# Altium integrated library TI_Logic_Gate.IntLib: 2017 symbols (part 11 of 56)
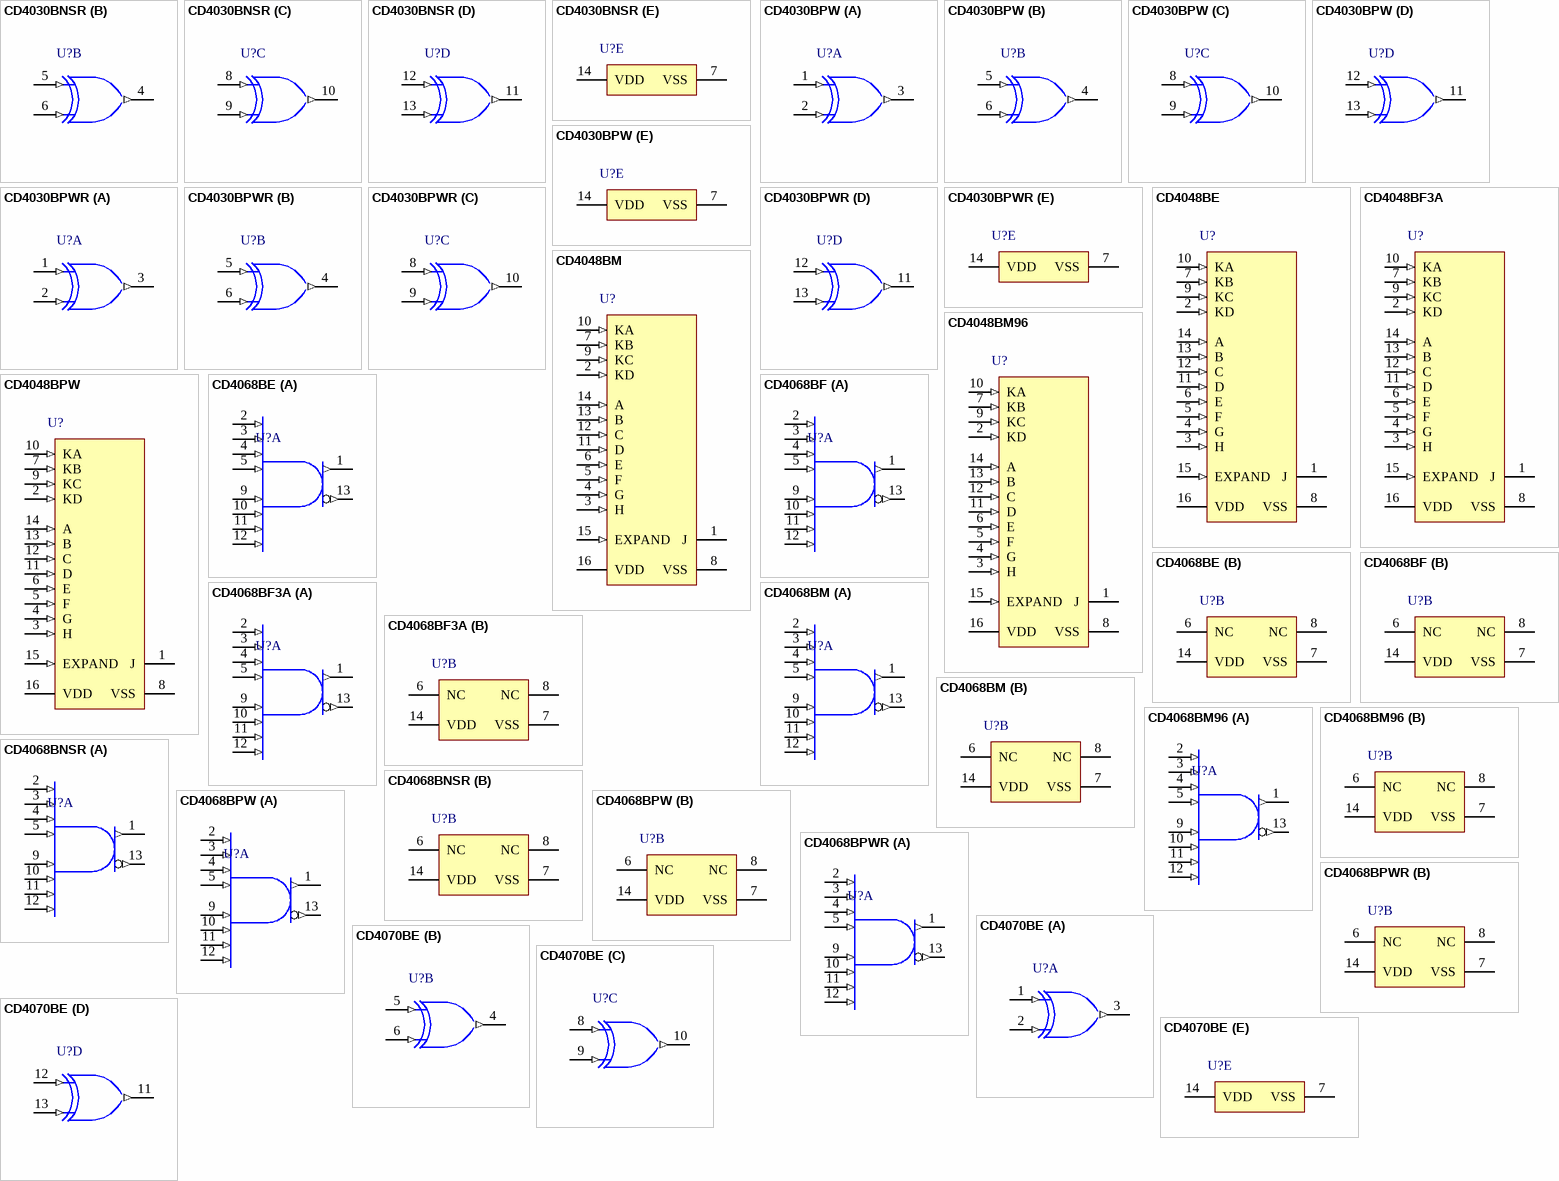
[diagram p235: symbols CD4030BNSR to CD4070BE]

## CD4068BF3A
designator U?
CMOS 8-Input NAND/AND Gate, J0014A, TUBE; Generic Part Number: CD4068B-MIL; Manufacturer: Texas Instruments; PartNumber: CD4068BF3A; VCC(Max)(V): 18; VCC(Min)(V): 3; ICC @ Nom Voltage(Max)(mA): 0.015; F @ Nom Voltage(Max)(Mhz): 8; Rating: Military; Technology Family: CD4000; Voltage(Nom)(V): 10; Schmitt Trigger: No; Output Drive (IOL/IOH)(Max)(mA): 1.5/-1.5; DatasheetVersion: SCHS053C; PackageReference: J0014A; Output Type: CMOS; Input Type: CMOS; Operating Temperature Range(C): -55 to 125; ComponentLink1Description: Manufacturer URL; ComponentLink1URL: http://www.ti.com/; ComponentLink2Description: Datasheet; ComponentLink2URL: http://www.ti.com/lit/ds/symlink/cd4068b-mil.pdf; ComponentLink3Description: Package Specification; ComponentLink3URL: http://www.ti.com/lit/ml/mcer002d/mcer002d.pdf
footprint J0014A (DIP, 14-Leads, Body 19.95x7.2mm, Pitch 2.54mm)
part A pins: 1 K (out), 2 A (in), 3 B (in), 4 C (in), 5 D (in), 9 E (in), 10 F (in), 11 G (in), 12 H (in), 13 J (out)
part B pins: 6 NC, 7 VSS (power), 8 NC, 14 VDD (power)

## CD4068BM
designator U?
CMOS 8-Input NAND/AND Gate, D0014A, TUBE; Generic Part Number: CD4068B; Manufacturer: Texas Instruments; PartNumber: CD4068BM; VCC(Max)(V): 18; VCC(Min)(V): 3; ICC @ Nom Voltage(Max)(mA): 0.015; Bits(#): 1; F @ Nom Voltage(Max)(Mhz): 8; Rating: Catalog; Technology Family: CD4000; Voltage(Nom)(V): 10; Schmitt Trigger: No; Output Drive (IOL/IOH)(Max)(mA): 1.5/-1.5; DatasheetVersion: SCHS053C; PackageReference: D0014A; Supplier 1: Mouser; Supplier Part Number 1: 595-CD4068BM; Supplier 2: Digi-Key; Supplier Part Number 2: 296-38906-5-ND; Output Type: CMOS; Input Type: CMOS; Operating Temperature Range(C): -55 to 125; Code_JEDEC: MS-012; ComponentLink1Description: Manufacturer URL; ComponentLink1URL: http://www.ti.com/; ComponentLink2Description: Datasheet; ComponentLink2URL: http://www.ti.com/lit/ds/symlink/cd4068b.pdf; ComponentLink3Description: Package Specification; ComponentLink3URL: http://www.ti.com/lit/ml/mpds177g/mpds177g.pdf
footprint D0014A_N (SOIC, 14-Leads, Body 8.75x4mm, Pitch 1.27mm, IPC Medium Density)
footprint D0014A_M (SOIC, 14-Leads, Body 8.75x4mm, Pitch 1.27mm, IPC Low Density)
footprint D0014A_L (SOIC, 14-Leads, Body 8.75x4mm, Pitch 1.27mm, IPC High Density)
part A pins: 1 K (out), 2 A (in), 3 B (in), 4 C (in), 5 D (in), 9 E (in), 10 F (in), 11 G (in), 12 H (in), 13 J (out)
part B pins: 6 NC, 7 VSS (power), 8 NC, 14 VDD (power)

## CD4068BM96
designator U?
CMOS 8-Input NAND/AND Gate, D0014A, LARGE T&R; Generic Part Number: CD4068B; Manufacturer: Texas Instruments; PartNumber: CD4068BM96; VCC(Max)(V): 18; VCC(Min)(V): 3; ICC @ Nom Voltage(Max)(mA): 0.015; Bits(#): 1; F @ Nom Voltage(Max)(Mhz): 8; Rating: Catalog; Technology Family: CD4000; Voltage(Nom)(V): 10; Schmitt Trigger: No; Output Drive (IOL/IOH)(Max)(mA): 1.5/-1.5; DatasheetVersion: SCHS053C; PackageReference: D0014A; Supplier 1: Mouser; Supplier Part Number 1: 595-CD4068BM96; Supplier 2: Digi-Key; Supplier Part Number 2: 296-15355-2-ND; Supplier 3: Digi-Key; Supplier Part Number 3: 296-15355-1-ND; Supplier 4: Digi-Key; Supplier Part Number 4: 296-15355-6-ND; Output Type: CMOS; Input Type: CMOS; Operating Temperature Range(C): -55 to 125; Code_JEDEC: MS-012; ComponentLink1Description: Manufacturer URL; ComponentLink1URL: http://www.ti.com/; ComponentLink2Description: Datasheet; ComponentLink2URL: http://www.ti.com/lit/ds/symlink/cd4068b.pdf; ComponentLink3Description: Package Specification; ComponentLink3URL: http://www.ti.com/lit/ml/mpds177g/mpds177g.pdf
footprint D0014A_N (SOIC, 14-Leads, Body 8.75x4mm, Pitch 1.27mm, IPC Medium Density)
footprint D0014A_M (SOIC, 14-Leads, Body 8.75x4mm, Pitch 1.27mm, IPC Low Density)
footprint D0014A_L (SOIC, 14-Leads, Body 8.75x4mm, Pitch 1.27mm, IPC High Density)
part A pins: 1 K (out), 2 A (in), 3 B (in), 4 C (in), 5 D (in), 9 E (in), 10 F (in), 11 G (in), 12 H (in), 13 J (out)
part B pins: 6 NC, 7 VSS (power), 8 NC, 14 VDD (power)

## CD4068BNSR
designator U?
CMOS 8-Input NAND/AND Gate, NS0014A, LARGE T&R; Generic Part Number: CD4068B; Manufacturer: Texas Instruments; PartNumber: CD4068BNSR; VCC(Max)(V): 18; VCC(Min)(V): 3; ICC @ Nom Voltage(Max)(mA): 0.015; Bits(#): 1; F @ Nom Voltage(Max)(Mhz): 8; Rating: Catalog; Technology Family: CD4000; Voltage(Nom)(V): 10; Schmitt Trigger: No; Output Drive (IOL/IOH)(Max)(mA): 1.5/-1.5; DatasheetVersion: SCHS053C; PackageReference: NS0014A; Supplier 1: Mouser; Supplier Part Number 1: 595-CD4068BNSR; Supplier 2: Digi-Key; Supplier Part Number 2: 296-14125-2-ND; Supplier 3: Digi-Key; Supplier Part Number 3: 296-14125-1-ND; Supplier 4: Digi-Key; Supplier Part Number 4: 296-14125-6-ND; Output Type: CMOS; Input Type: CMOS; Operating Temperature Range(C): -55 to 125; ComponentLink1Description: Manufacturer URL; ComponentLink1URL: http://www.ti.com/; ComponentLink2Description: Datasheet; ComponentLink2URL: http://www.ti.com/lit/ds/symlink/cd4068b.pdf; ComponentLink3Description: Package Specification; ComponentLink3URL: http://www.ti.com/lit/ml/msop002a/msop002a.pdf
footprint NS0014A_N (SOIC,14-Leads,Body 10.5x5.6mm,Pitch 1.27mm,IPC Medium Density)
footprint NS0014A_M (SOIC,14-Leads,Body 10.5x5.6mm,Pitch 1.27mm,IPC Low Density)
footprint NS0014A_L (SOIC,14-Leads,Body 10.5x5.6mm,Pitch 0.4mm,IPC High Density)
part A pins: 1 K (out), 2 A (in), 3 B (in), 4 C (in), 5 D (in), 9 E (in), 10 F (in), 11 G (in), 12 H (in), 13 J (out)
part B pins: 6 NC, 7 VSS (power), 8 NC, 14 VDD (power)

## CD4068BPW
designator U?
CMOS 8-Input NAND/AND Gate, PW0014A, TUBE; Generic Part Number: CD4068B; Manufacturer: Texas Instruments; PartNumber: CD4068BPW; VCC(Max)(V): 18; VCC(Min)(V): 3; ICC @ Nom Voltage(Max)(mA): 0.015; Bits(#): 1; F @ Nom Voltage(Max)(Mhz): 8; Rating: Catalog; Technology Family: CD4000; Voltage(Nom)(V): 10; Schmitt Trigger: No; Output Drive (IOL/IOH)(Max)(mA): 1.5/-1.5; DatasheetVersion: SCHS053C; PackageReference: PW0014A; Supplier 1: Mouser; Supplier Part Number 1: 595-CD4068BPW; Supplier 2: Digi-Key; Supplier Part Number 2: CD4068BPW-ND; Output Type: CMOS; Input Type: CMOS; Operating Temperature Range(C): -55 to 125; Code_JEDEC: MO-153; ComponentLink1Description: Manufacturer URL; ComponentLink1URL: http://www.ti.com/; ComponentLink2Description: Datasheet; ComponentLink2URL: http://www.ti.com/lit/ds/symlink/cd4068b.pdf; ComponentLink3Description: Package Specification; ComponentLink3URL: http://www.ti.com/lit/ml/mpds360/mpds360.pdf
footprint PW0014A_N (SOP, 14-Leads, Body 5.1x4.5mm, Pitch 0.65mm, IPC Medium Density)
footprint PW0014A_M (SOP, 14-Leads, Body 5.1x4.5mm, Pitch 0.65mm, IPC Low Density)
footprint PW0014A_L (SOP, 14-Leads, Body 5.1x4.5mm, Pitch 0.65mm, IPC High Density)
part A pins: 1 K (out), 2 A (in), 3 B (in), 4 C (in), 5 D (in), 9 E (in), 10 F (in), 11 G (in), 12 H (in), 13 J (out)
part B pins: 6 NC, 7 VSS (power), 8 NC, 14 VDD (power)

## CD4068BPWR
designator U?
CMOS 8-Input NAND/AND Gate, PW0014A, LARGE T&R; Generic Part Number: CD4068B; Manufacturer: Texas Instruments; PartNumber: CD4068BPWR; VCC(Max)(V): 18; VCC(Min)(V): 3; ICC @ Nom Voltage(Max)(mA): 0.015; Bits(#): 1; F @ Nom Voltage(Max)(Mhz): 8; Rating: Catalog; Technology Family: CD4000; Voltage(Nom)(V): 10; Schmitt Trigger: No; Output Drive (IOL/IOH)(Max)(mA): 1.5/-1.5; DatasheetVersion: SCHS053C; PackageReference: PW0014A; Supplier 1: Mouser; Supplier Part Number 1: 595-CD4068BPWR; Supplier 2: Digi-Key; Supplier Part Number 2: 296-31516-2-ND; Supplier 3: Digi-Key; Supplier Part Number 3: 296-31516-1-ND; Supplier 4: Digi-Key; Supplier Part Number 4: 296-31516-6-ND; Output Type: CMOS; Input Type: CMOS; Operating Temperature Range(C): -55 to 125; Code_JEDEC: MO-153; ComponentLink1Description: Manufacturer URL; ComponentLink1URL: http://www.ti.com/; ComponentLink2Description: Datasheet; ComponentLink2URL: http://www.ti.com/lit/ds/symlink/cd4068b.pdf; ComponentLink3Description: Package Specification; ComponentLink3URL: http://www.ti.com/lit/ml/mpds360/mpds360.pdf
footprint PW0014A_N (SOP, 14-Leads, Body 5.1x4.5mm, Pitch 0.65mm, IPC Medium Density)
footprint PW0014A_M (SOP, 14-Leads, Body 5.1x4.5mm, Pitch 0.65mm, IPC Low Density)
footprint PW0014A_L (SOP, 14-Leads, Body 5.1x4.5mm, Pitch 0.65mm, IPC High Density)
part A pins: 1 K (out), 2 A (in), 3 B (in), 4 C (in), 5 D (in), 9 E (in), 10 F (in), 11 G (in), 12 H (in), 13 J (out)
part B pins: 6 NC, 7 VSS (power), 8 NC, 14 VDD (power)

## CD4070BE
designator U?
CMOS Quad Exclusive-OR Gate, N0014A, TUBE; Generic Part Number: CD4070B; Manufacturer: Texas Instruments; PartNumber: CD4070BE; VCC(Max)(V): 18; VCC(Min)(V): 3; ICC @ Nom Voltage(Max)(mA): 0.015; Bits(#): 4; F @ Nom Voltage(Max)(Mhz): 8; Rating: Military; Technology Family: CD4000; Voltage(Nom)(V): 10; Schmitt Trigger: No; Output Drive (IOL/IOH)(Max)(mA): 1.5/-1.5; tpd @ Nom Voltage(Max)(ns): 130; DatasheetVersion: SCHS055E; PackageReference: N0014A; Supplier 1: Mouser; Supplier Part Number 1: 595-CD4070BE; Supplier 2: Digi-Key; Supplier Part Number 2: 296-14128-5-ND; Output Type: CMOS; Input Type: CMOS; Operating Temperature Range(C): -55 to 125; ComponentLink1Description: Manufacturer URL; ComponentLink1URL: http://www.ti.com/; ComponentLink2Description: Datasheet; ComponentLink2URL: http://www.ti.com/lit/ds/symlink/cd4070b.pdf
footprint N0014A (DIP, 14-Leads, Body 19.7x6.6mm, Pitch 2.54mm)
part A pins: 1 A (in), 2 B (in), 3 J (out)
part B pins: 4 K (out), 5 C (in), 6 D (in)
part C pins: 8 E (in), 9 F (in), 10 L (out)
part D pins: 11 M (out), 12 G (in), 13 H (in)
part E pins: 7 VSS (power), 14 VDD (power)

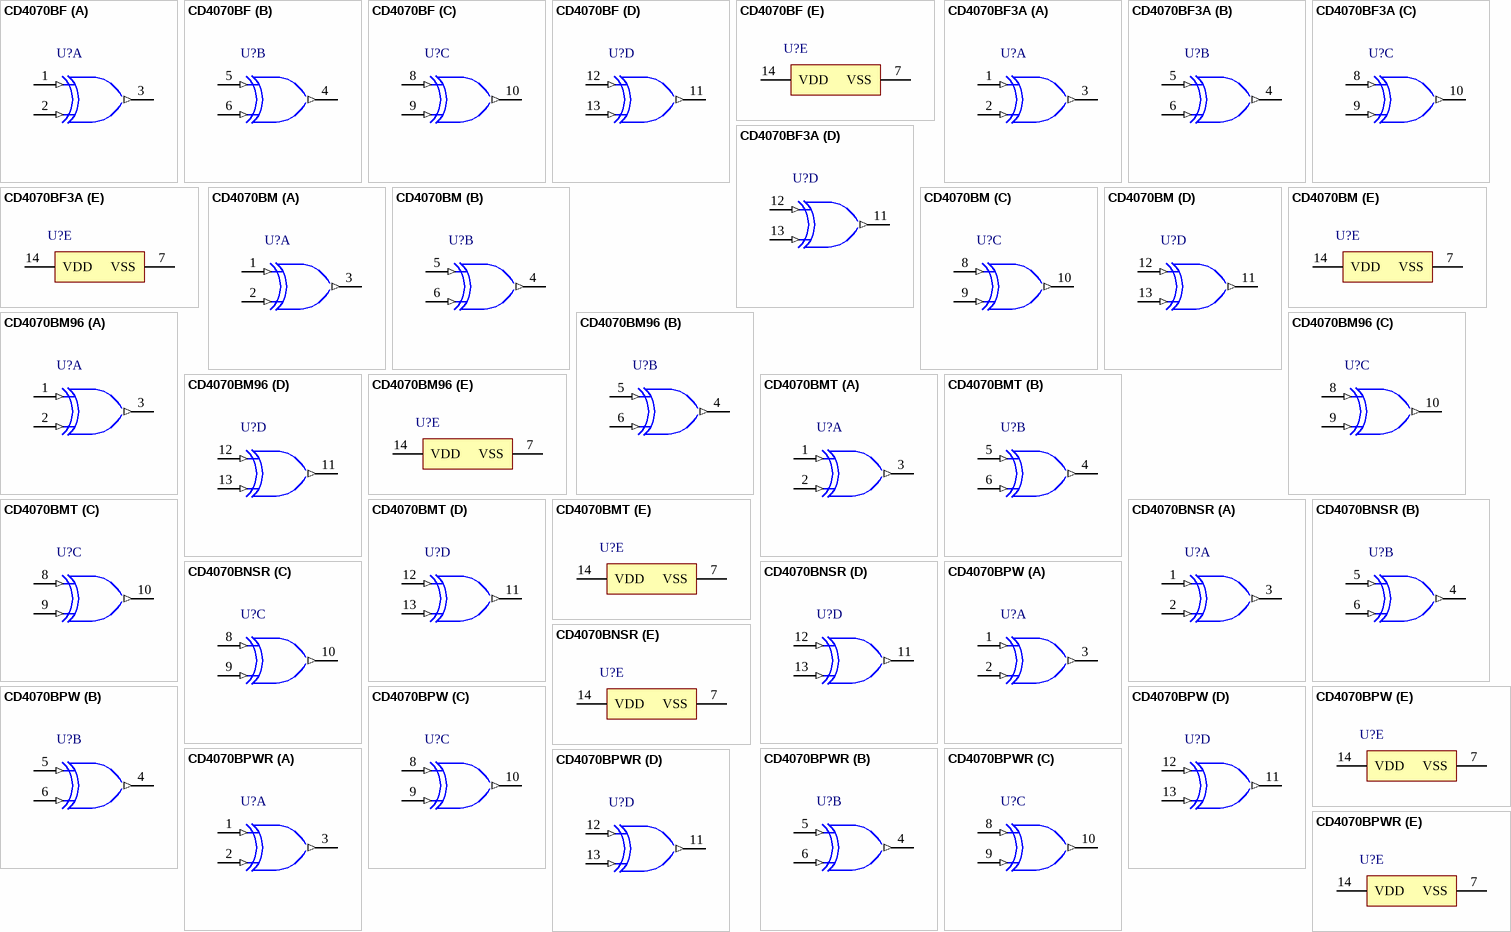
[diagram p40: symbols CD4070BF to CD4070BPWR]

## CD4070BF
designator U?
CMOS Quad Exclusive-OR Gate, J0014A, TUBE; Generic Part Number: CD4070B-MIL; Manufacturer: Texas Instruments; PartNumber: CD4070BF; VCC(Max)(V): 18; VCC(Min)(V): 3; ICC @ Nom Voltage(Max)(mA): 0.015; Bits(#): 4; F @ Nom Voltage(Max)(Mhz): 8; Rating: Military; Technology Family: CD4000; Voltage(Nom)(V): 10; Schmitt Trigger: No; Output Drive (IOL/IOH)(Max)(mA): 1.5/-1.5; tpd @ Nom Voltage(Max)(ns): 130; DatasheetVersion: SCHS055E; PackageReference: J0014A; Output Type: CMOS; Input Type: CMOS; Operating Temperature Range(C): -55 to 125; ComponentLink1Description: Manufacturer URL; ComponentLink1URL: http://www.ti.com/; ComponentLink2Description: Datasheet; ComponentLink2URL: http://www.ti.com/lit/ds/symlink/cd4070b-mil.pdf
footprint J0014A (DIP, 14-Leads, Body 19.95x7.2mm, Pitch 2.54mm)
part A pins: 1 A (in), 2 B (in), 3 J (out)
part B pins: 4 K (out), 5 C (in), 6 D (in)
part C pins: 8 E (in), 9 F (in), 10 L (out)
part D pins: 11 M (out), 12 G (in), 13 H (in)
part E pins: 7 VSS (power), 14 VDD (power)

## CD4070BF3A
designator U?
CMOS Quad Exclusive-OR Gate, J0014A, TUBE; Generic Part Number: CD4070B-MIL; Manufacturer: Texas Instruments; PartNumber: CD4070BF3A; VCC(Max)(V): 18; VCC(Min)(V): 3; ICC @ Nom Voltage(Max)(mA): 0.015; Bits(#): 4; F @ Nom Voltage(Max)(Mhz): 8; Rating: Military; Technology Family: CD4000; Voltage(Nom)(V): 10; Schmitt Trigger: No; Output Drive (IOL/IOH)(Max)(mA): 1.5/-1.5; tpd @ Nom Voltage(Max)(ns): 130; DatasheetVersion: SCHS055E; PackageReference: J0014A; Output Type: CMOS; Input Type: CMOS; Operating Temperature Range(C): -55 to 125; ComponentLink1Description: Manufacturer URL; ComponentLink1URL: http://www.ti.com/; ComponentLink2Description: Datasheet; ComponentLink2URL: http://www.ti.com/lit/ds/symlink/cd4070b-mil.pdf
footprint J0014A (DIP, 14-Leads, Body 19.95x7.2mm, Pitch 2.54mm)
part A pins: 1 A (in), 2 B (in), 3 J (out)
part B pins: 4 K (out), 5 C (in), 6 D (in)
part C pins: 8 E (in), 9 F (in), 10 L (out)
part D pins: 11 M (out), 12 G (in), 13 H (in)
part E pins: 7 VSS (power), 14 VDD (power)

## CD4070BM
designator U?
CMOS Quad Exclusive-OR Gate, D0014A, TUBE; Generic Part Number: CD4070B; Manufacturer: Texas Instruments; PartNumber: CD4070BM; VCC(Max)(V): 18; VCC(Min)(V): 3; ICC @ Nom Voltage(Max)(mA): 0.015; Bits(#): 4; F @ Nom Voltage(Max)(Mhz): 8; Rating: Military; Technology Family: CD4000; Voltage(Nom)(V): 10; Schmitt Trigger: No; Output Drive (IOL/IOH)(Max)(mA): 1.5/-1.5; tpd @ Nom Voltage(Max)(ns): 130; DatasheetVersion: SCHS055E; PackageReference: D0014A; Supplier 1: Mouser; Supplier Part Number 1: 595-CD4070BM; Supplier 2: Digi-Key; Supplier Part Number 2: 296-14276-5-ND; Output Type: CMOS; Input Type: CMOS; Operating Temperature Range(C): -55 to 125; ComponentLink1Description: Manufacturer URL; ComponentLink1URL: http://www.ti.com/; ComponentLink2Description: Datasheet; ComponentLink2URL: http://www.ti.com/lit/ds/symlink/cd4070b.pdf
footprint D0014A_N (SOIC, 14-Leads, Body 8.75x4mm, Pitch 1.27mm, IPC Medium Density)
footprint D0014A_M (SOIC, 14-Leads, Body 8.75x4mm, Pitch 1.27mm, IPC Low Density)
footprint D0014A_L (SOIC, 14-Leads, Body 8.75x4mm, Pitch 1.27mm, IPC High Density)
part A pins: 1 A (in), 2 B (in), 3 J (out)
part B pins: 4 K (out), 5 C (in), 6 D (in)
part C pins: 8 E (in), 9 F (in), 10 L (out)
part D pins: 11 M (out), 12 G (in), 13 H (in)
part E pins: 7 VSS (power), 14 VDD (power)

## CD4070BM96
designator U?
CMOS Quad Exclusive-OR Gate, D0014A, LARGE T&R; Generic Part Number: CD4070B; Manufacturer: Texas Instruments; PartNumber: CD4070BM96; VCC(Max)(V): 18; VCC(Min)(V): 3; ICC @ Nom Voltage(Max)(mA): 0.015; Bits(#): 4; F @ Nom Voltage(Max)(Mhz): 8; Rating: Military; Technology Family: CD4000; Voltage(Nom)(V): 10; Schmitt Trigger: No; Output Drive (IOL/IOH)(Max)(mA): 1.5/-1.5; tpd @ Nom Voltage(Max)(ns): 130; DatasheetVersion: SCHS055E; PackageReference: D0014A; Supplier 1: Mouser; Supplier Part Number 1: 595-CD4070BM96; Supplier 2: Digi-Key; Supplier Part Number 2: 296-31517-2-ND; Supplier 3: Digi-Key; Supplier Part Number 3: 296-31517-1-ND; Supplier 4: Digi-Key; Supplier Part Number 4: 296-31517-6-ND; Output Type: CMOS; Input Type: CMOS; Operating Temperature Range(C): -55 to 125; ComponentLink1Description: Manufacturer URL; ComponentLink1URL: http://www.ti.com/; ComponentLink2Description: Datasheet; ComponentLink2URL: http://www.ti.com/lit/ds/symlink/cd4070b.pdf
footprint D0014A_N (SOIC, 14-Leads, Body 8.75x4mm, Pitch 1.27mm, IPC Medium Density)
footprint D0014A_M (SOIC, 14-Leads, Body 8.75x4mm, Pitch 1.27mm, IPC Low Density)
footprint D0014A_L (SOIC, 14-Leads, Body 8.75x4mm, Pitch 1.27mm, IPC High Density)
part A pins: 1 A (in), 2 B (in), 3 J (out)
part B pins: 4 K (out), 5 C (in), 6 D (in)
part C pins: 8 E (in), 9 F (in), 10 L (out)
part D pins: 11 M (out), 12 G (in), 13 H (in)
part E pins: 7 VSS (power), 14 VDD (power)

## CD4070BMT
designator U?
CMOS Quad Exclusive-OR Gate, D0014A, SMALL T&R; Generic Part Number: CD4070B; Manufacturer: Texas Instruments; PartNumber: CD4070BMT; VCC(Max)(V): 18; VCC(Min)(V): 3; ICC @ Nom Voltage(Max)(mA): 0.015; Bits(#): 4; F @ Nom Voltage(Max)(Mhz): 8; Rating: Military; Technology Family: CD4000; Voltage(Nom)(V): 10; Schmitt Trigger: No; Output Drive (IOL/IOH)(Max)(mA): 1.5/-1.5; tpd @ Nom Voltage(Max)(ns): 130; DatasheetVersion: SCHS055E; PackageReference: D0014A; Supplier 1: Mouser; Supplier Part Number 1: 595-CD4070BMT; Supplier 2: Digi-Key; Supplier Part Number 2: CD4070BMT-ND; Output Type: CMOS; Input Type: CMOS; Operating Temperature Range(C): -55 to 125; ComponentLink1Description: Manufacturer URL; ComponentLink1URL: http://www.ti.com/; ComponentLink2Description: Datasheet; ComponentLink2URL: http://www.ti.com/lit/ds/symlink/cd4070b.pdf
footprint D0014A_N (SOIC, 14-Leads, Body 8.75x4mm, Pitch 1.27mm, IPC Medium Density)
footprint D0014A_M (SOIC, 14-Leads, Body 8.75x4mm, Pitch 1.27mm, IPC Low Density)
footprint D0014A_L (SOIC, 14-Leads, Body 8.75x4mm, Pitch 1.27mm, IPC High Density)
part A pins: 1 A (in), 2 B (in), 3 J (out)
part B pins: 4 K (out), 5 C (in), 6 D (in)
part C pins: 8 E (in), 9 F (in), 10 L (out)
part D pins: 11 M (out), 12 G (in), 13 H (in)
part E pins: 7 VSS (power), 14 VDD (power)

## CD4070BNSR
designator U?
CMOS Quad Exclusive-OR Gate, NS0014A, LARGE T&R; Generic Part Number: CD4070B; Manufacturer: Texas Instruments; PartNumber: CD4070BNSR; VCC(Max)(V): 18; VCC(Min)(V): 3; ICC @ Nom Voltage(Max)(mA): 0.015; Bits(#): 4; F @ Nom Voltage(Max)(Mhz): 8; Rating: Military; Technology Family: CD4000; Voltage(Nom)(V): 10; Schmitt Trigger: No; Output Drive (IOL/IOH)(Max)(mA): 1.5/-1.5; tpd @ Nom Voltage(Max)(ns): 130; DatasheetVersion: SCHS055E; PackageReference: NS0014A; Supplier 1: Mouser; Supplier Part Number 1: 595-CD4070BNSR; Supplier 2: Digi-Key; Supplier Part Number 2: 296-14129-2-ND; Supplier 3: Digi-Key; Supplier Part Number 3: 296-14129-1-ND; Supplier 4: Digi-Key; Supplier Part Number 4: 296-14129-6-ND; Output Type: CMOS; Input Type: CMOS; Operating Temperature Range(C): -55 to 125; ComponentLink1Description: Manufacturer URL; ComponentLink1URL: http://www.ti.com/; ComponentLink2Description: Datasheet; ComponentLink2URL: http://www.ti.com/lit/ds/symlink/cd4070b.pdf
footprint NS0014A_N (SOIC,14-Leads,Body 10.5x5.6mm,Pitch 1.27mm,IPC Medium Density)
footprint NS0014A_M (SOIC,14-Leads,Body 10.5x5.6mm,Pitch 1.27mm,IPC Low Density)
footprint NS0014A_L (SOIC,14-Leads,Body 10.5x5.6mm,Pitch 0.4mm,IPC High Density)
part A pins: 1 A (in), 2 B (in), 3 J (out)
part B pins: 4 K (out), 5 C (in), 6 D (in)
part C pins: 8 E (in), 9 F (in), 10 L (out)
part D pins: 11 M (out), 12 G (in), 13 H (in)
part E pins: 7 VSS (power), 14 VDD (power)

## CD4070BPW
designator U?
CMOS Quad Exclusive-OR Gate, PW0014A, TUBE; Generic Part Number: CD4070B; Manufacturer: Texas Instruments; PartNumber: CD4070BPW; VCC(Max)(V): 18; VCC(Min)(V): 3; ICC @ Nom Voltage(Max)(mA): 0.015; Bits(#): 4; F @ Nom Voltage(Max)(Mhz): 8; Rating: Military; Technology Family: CD4000; Voltage(Nom)(V): 10; Schmitt Trigger: No; Output Drive (IOL/IOH)(Max)(mA): 1.5/-1.5; tpd @ Nom Voltage(Max)(ns): 130; DatasheetVersion: SCHS055E; PackageReference: PW0014A; Supplier 1: Mouser; Supplier Part Number 1: 595-CD4070BPW; Supplier 2: Digi-Key; Supplier Part Number 2: CD4070BPW-ND; Output Type: CMOS; Input Type: CMOS; Operating Temperature Range(C): -55 to 125; ComponentLink1Description: Manufacturer URL; ComponentLink1URL: http://www.ti.com/; ComponentLink2Description: Datasheet; ComponentLink2URL: http://www.ti.com/lit/ds/symlink/cd4070b.pdf
footprint PW0014A_N (SOP, 14-Leads, Body 5.1x4.5mm, Pitch 0.65mm, IPC Medium Density)
footprint PW0014A_M (SOP, 14-Leads, Body 5.1x4.5mm, Pitch 0.65mm, IPC Low Density)
footprint PW0014A_L (SOP, 14-Leads, Body 5.1x4.5mm, Pitch 0.65mm, IPC High Density)
part A pins: 1 A (in), 2 B (in), 3 J (out)
part B pins: 4 K (out), 5 C (in), 6 D (in)
part C pins: 8 E (in), 9 F (in), 10 L (out)
part D pins: 11 M (out), 12 G (in), 13 H (in)
part E pins: 7 VSS (power), 14 VDD (power)

## CD4070BPWR
designator U?
CMOS Quad Exclusive-OR Gate, PW0014A, LARGE T&R; Generic Part Number: CD4070B; Manufacturer: Texas Instruments; PartNumber: CD4070BPWR; VCC(Max)(V): 18; VCC(Min)(V): 3; ICC @ Nom Voltage(Max)(mA): 0.015; Bits(#): 4; F @ Nom Voltage(Max)(Mhz): 8; Rating: Military; Technology Family: CD4000; Voltage(Nom)(V): 10; Schmitt Trigger: No; Output Drive (IOL/IOH)(Max)(mA): 1.5/-1.5; tpd @ Nom Voltage(Max)(ns): 130; DatasheetVersion: SCHS055E; PackageReference: PW0014A; Supplier 1: Mouser; Supplier Part Number 1: 595-CD4070BPWR; Supplier 2: Digi-Key; Supplier Part Number 2: 296-14277-2-ND; Supplier 3: Digi-Key; Supplier Part Number 3: 296-14277-1-ND; Supplier 4: Digi-Key; Supplier Part Number 4: 296-14277-6-ND; Output Type: CMOS; Input Type: CMOS; Operating Temperature Range(C): -55 to 125; ComponentLink1Description: Manufacturer URL; ComponentLink1URL: http://www.ti.com/; ComponentLink2Description: Datasheet; ComponentLink2URL: http://www.ti.com/lit/ds/symlink/cd4070b.pdf
footprint PW0014A_N (SOP, 14-Leads, Body 5.1x4.5mm, Pitch 0.65mm, IPC Medium Density)
footprint PW0014A_M (SOP, 14-Leads, Body 5.1x4.5mm, Pitch 0.65mm, IPC Low Density)
footprint PW0014A_L (SOP, 14-Leads, Body 5.1x4.5mm, Pitch 0.65mm, IPC High Density)
part A pins: 1 A (in), 2 B (in), 3 J (out)
part B pins: 4 K (out), 5 C (in), 6 D (in)
part C pins: 8 E (in), 9 F (in), 10 L (out)
part D pins: 11 M (out), 12 G (in), 13 H (in)
part E pins: 7 VSS (power), 14 VDD (power)

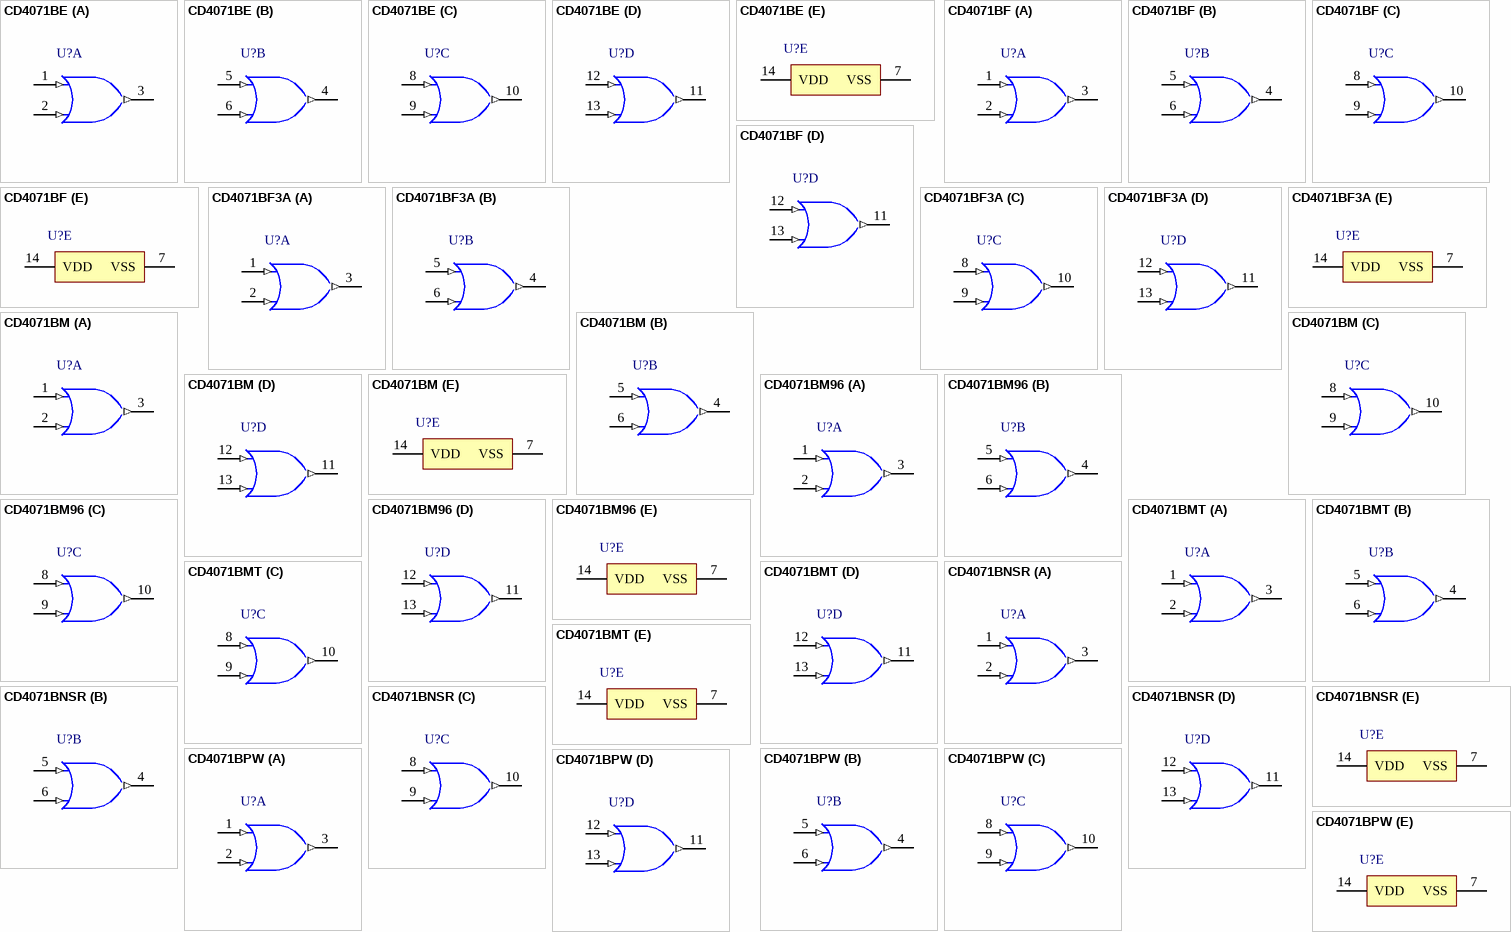
[diagram p41: symbols CD4071BE to CD4071BPW]

## CD4071BE
designator U?
CMOS Quad 2-Input OR Gate, N0014A, TUBE; Generic Part Number: CD4071B; Manufacturer: Texas Instruments; PartNumber: CD4071BE; VCC(Min)(V): 3; VCC(Max)(V): 18; ICC @ Nom Voltage(Max)(mA): 0.015; Bits(#): 4; F @ Nom Voltage(Max)(Mhz): 8; Rating: Military; Voltage(Nom)(V): 10; Output Drive (IOL/IOH)(Max)(mA): 1.5/-1.5; tpd @ Nom Voltage(Max)(ns): 120; DatasheetVersion: SCHS056D; PackageReference: N0014A; Output Type: CMOS; Input Type: CMOS; Operating Temperature Range(C): -55 to 125; Code_JEDEC: MS-001; ComponentLink1Description: Manufacturer URL; ComponentLink1URL: http://www.ti.com/; ComponentLink2Description: Datasheet; ComponentLink2URL: http://www.ti.com/lit/ds/symlink/cd4071b.pdf; ComponentLink3Description: Package Specification; ComponentLink3URL: http://www.ti.com/lit/ml/mpdi002c/mpdi002c.pdf
footprint N0014A (DIP, 14-Leads, Body 19.7x6.6mm, Pitch 2.54mm)
part A pins: 1 A (in), 2 B (in), 3 J (out)
part B pins: 4 K (out), 5 C (in), 6 D (in)
part C pins: 8 E (in), 9 F (in), 10 L (out)
part D pins: 11 M (out), 12 G (in), 13 H (in)
part E pins: 7 VSS (power), 14 VDD (power)

## CD4071BF
designator U?
CMOS Quad 2-Input OR Gate, J0014A, TUBE; Generic Part Number: CD4071B-MIL; Manufacturer: Texas Instruments; PartNumber: CD4071BF; VCC(Min)(V): 3; VCC(Max)(V): 18; ICC @ Nom Voltage(Max)(mA): 0.015; Bits(#): 4; F @ Nom Voltage(Max)(Mhz): 8; Rating: Military; Voltage(Nom)(V): 10; Output Drive (IOL/IOH)(Max)(mA): 1.5/-1.5; tpd @ Nom Voltage(Max)(ns): 250; DatasheetVersion: SCHS056D; PackageReference: J0014A; Output Type: CMOS; Input Type: CMOS; Operating Temperature Range(C): -55 to 125; ComponentLink1Description: Manufacturer URL; ComponentLink1URL: http://www.ti.com/; ComponentLink2Description: Datasheet; ComponentLink2URL: http://www.ti.com/lit/ds/symlink/cd4071b-mil.pdf; ComponentLink3Description: Package Specification; ComponentLink3URL: http://www.ti.com/lit/ml/mcer002d/mcer002d.pdf
footprint J0014A (DIP, 14-Leads, Body 19.95x7.2mm, Pitch 2.54mm)
part A pins: 1 A (in), 2 B (in), 3 J (out)
part B pins: 4 K (out), 5 C (in), 6 D (in)
part C pins: 8 E (in), 9 F (in), 10 L (out)
part D pins: 11 M (out), 12 G (in), 13 H (in)
part E pins: 7 VSS (power), 14 VDD (power)

## CD4071BF3A
designator U?
CMOS Quad 2-Input OR Gate, J0014A, TUBE; Generic Part Number: CD4071B-MIL; Manufacturer: Texas Instruments; PartNumber: CD4071BF3A; VCC(Min)(V): 3; VCC(Max)(V): 18; ICC @ Nom Voltage(Max)(mA): 0.015; Bits(#): 4; F @ Nom Voltage(Max)(Mhz): 8; Rating: Military; Voltage(Nom)(V): 10; Output Drive (IOL/IOH)(Max)(mA): 1.5/-1.5; tpd @ Nom Voltage(Max)(ns): 250; DatasheetVersion: SCHS056D; PackageReference: J0014A; Output Type: CMOS; Input Type: CMOS; Operating Temperature Range(C): -55 to 125; ComponentLink1Description: Manufacturer URL; ComponentLink1URL: http://www.ti.com/; ComponentLink2Description: Datasheet; ComponentLink2URL: http://www.ti.com/lit/ds/symlink/cd4071b-mil.pdf; ComponentLink3Description: Package Specification; ComponentLink3URL: http://www.ti.com/lit/ml/mcer002d/mcer002d.pdf
footprint J0014A (DIP, 14-Leads, Body 19.95x7.2mm, Pitch 2.54mm)
part A pins: 1 A (in), 2 B (in), 3 J (out)
part B pins: 4 K (out), 5 C (in), 6 D (in)
part C pins: 8 E (in), 9 F (in), 10 L (out)
part D pins: 11 M (out), 12 G (in), 13 H (in)
part E pins: 7 VSS (power), 14 VDD (power)

## CD4071BM
designator U?
CMOS Quad 2-Input OR Gate, D0014A, TUBE; Generic Part Number: CD4071B; Manufacturer: Texas Instruments; PartNumber: CD4071BM; VCC(Min)(V): 3; VCC(Max)(V): 18; ICC @ Nom Voltage(Max)(mA): 0.015; Bits(#): 4; F @ Nom Voltage(Max)(Mhz): 8; Rating: Military; Voltage(Nom)(V): 10; Output Drive (IOL/IOH)(Max)(mA): 1.5/-1.5; tpd @ Nom Voltage(Max)(ns): 120; DatasheetVersion: SCHS056D; PackageReference: D0014A; Output Type: CMOS; Input Type: CMOS; Operating Temperature Range(C): -55 to 125; Code_JEDEC: MS-012; ComponentLink1Description: Manufacturer URL; ComponentLink1URL: http://www.ti.com/; ComponentLink2Description: Datasheet; ComponentLink2URL: http://www.ti.com/lit/ds/symlink/cd4071b.pdf; ComponentLink3Description: Package Specification; ComponentLink3URL: http://www.ti.com/lit/ml/mpds177g/mpds177g.pdf
footprint D0014A_N (SOIC, 14-Leads, Body 8.75x4mm, Pitch 1.27mm, IPC Medium Density)
footprint D0014A_M (SOIC, 14-Leads, Body 8.75x4mm, Pitch 1.27mm, IPC Low Density)
footprint D0014A_L (SOIC, 14-Leads, Body 8.75x4mm, Pitch 1.27mm, IPC High Density)
part A pins: 1 A (in), 2 B (in), 3 J (out)
part B pins: 4 K (out), 5 C (in), 6 D (in)
part C pins: 8 E (in), 9 F (in), 10 L (out)
part D pins: 11 M (out), 12 G (in), 13 H (in)
part E pins: 7 VSS (power), 14 VDD (power)

## CD4071BM96
designator U?
CMOS Quad 2-Input OR Gate, D0014A, LARGE T&R; Generic Part Number: CD4071B; Manufacturer: Texas Instruments; PartNumber: CD4071BM96; VCC(Min)(V): 3; VCC(Max)(V): 18; ICC @ Nom Voltage(Max)(mA): 0.015; Bits(#): 4; F @ Nom Voltage(Max)(Mhz): 8; Rating: Military; Voltage(Nom)(V): 10; Output Drive (IOL/IOH)(Max)(mA): 1.5/-1.5; tpd @ Nom Voltage(Max)(ns): 120; DatasheetVersion: SCHS056D; PackageReference: D0014A; Output Type: CMOS; Input Type: CMOS; Operating Temperature Range(C): -55 to 125; Code_JEDEC: MS-012; ComponentLink1Description: Manufacturer URL; ComponentLink1URL: http://www.ti.com/; ComponentLink2Description: Datasheet; ComponentLink2URL: http://www.ti.com/lit/ds/symlink/cd4071b.pdf; ComponentLink3Description: Package Specification; ComponentLink3URL: http://www.ti.com/lit/ml/mpds177g/mpds177g.pdf
footprint D0014A_N (SOIC, 14-Leads, Body 8.75x4mm, Pitch 1.27mm, IPC Medium Density)
footprint D0014A_M (SOIC, 14-Leads, Body 8.75x4mm, Pitch 1.27mm, IPC Low Density)
footprint D0014A_L (SOIC, 14-Leads, Body 8.75x4mm, Pitch 1.27mm, IPC High Density)
part A pins: 1 A (in), 2 B (in), 3 J (out)
part B pins: 4 K (out), 5 C (in), 6 D (in)
part C pins: 8 E (in), 9 F (in), 10 L (out)
part D pins: 11 M (out), 12 G (in), 13 H (in)
part E pins: 7 VSS (power), 14 VDD (power)

## CD4071BMT
designator U?
CMOS Quad 2-Input OR Gate, D0014A, SMALL T&R; Generic Part Number: CD4071B; Manufacturer: Texas Instruments; PartNumber: CD4071BMT; VCC(Min)(V): 3; VCC(Max)(V): 18; ICC @ Nom Voltage(Max)(mA): 0.015; Bits(#): 4; F @ Nom Voltage(Max)(Mhz): 8; Rating: Military; Voltage(Nom)(V): 10; Output Drive (IOL/IOH)(Max)(mA): 1.5/-1.5; tpd @ Nom Voltage(Max)(ns): 120; DatasheetVersion: SCHS056D; PackageReference: D0014A; Output Type: CMOS; Input Type: CMOS; Operating Temperature Range(C): -55 to 125; Code_JEDEC: MS-012; ComponentLink1Description: Manufacturer URL; ComponentLink1URL: http://www.ti.com/; ComponentLink2Description: Datasheet; ComponentLink2URL: http://www.ti.com/lit/ds/symlink/cd4071b.pdf; ComponentLink3Description: Package Specification; ComponentLink3URL: http://www.ti.com/lit/ml/mpds177g/mpds177g.pdf
footprint D0014A_N (SOIC, 14-Leads, Body 8.75x4mm, Pitch 1.27mm, IPC Medium Density)
footprint D0014A_M (SOIC, 14-Leads, Body 8.75x4mm, Pitch 1.27mm, IPC Low Density)
footprint D0014A_L (SOIC, 14-Leads, Body 8.75x4mm, Pitch 1.27mm, IPC High Density)
part A pins: 1 A (in), 2 B (in), 3 J (out)
part B pins: 4 K (out), 5 C (in), 6 D (in)
part C pins: 8 E (in), 9 F (in), 10 L (out)
part D pins: 11 M (out), 12 G (in), 13 H (in)
part E pins: 7 VSS (power), 14 VDD (power)

## CD4071BNSR
designator U?
CMOS Quad 2-Input OR Gate, NS0014A, LARGE T&R; Generic Part Number: CD4071B; Manufacturer: Texas Instruments; PartNumber: CD4071BNSR; VCC(Min)(V): 3; VCC(Max)(V): 18; ICC @ Nom Voltage(Max)(mA): 0.015; Bits(#): 4; F @ Nom Voltage(Max)(Mhz): 8; Rating: Military; Voltage(Nom)(V): 10; Output Drive (IOL/IOH)(Max)(mA): 1.5/-1.5; tpd @ Nom Voltage(Max)(ns): 120; DatasheetVersion: SCHS056D; PackageReference: NS0014A; Output Type: CMOS; Input Type: CMOS; Operating Temperature Range(C): -55 to 125; ComponentLink1Description: Manufacturer URL; ComponentLink1URL: http://www.ti.com/; ComponentLink2Description: Datasheet; ComponentLink2URL: http://www.ti.com/lit/ds/symlink/cd4071b.pdf; ComponentLink3Description: Package Specification; ComponentLink3URL: http://www.ti.com/lit/ml/msop002a/msop002a.pdf
footprint NS0014A_N (SOIC,14-Leads,Body 10.5x5.6mm,Pitch 1.27mm,IPC Medium Density)
footprint NS0014A_M (SOIC,14-Leads,Body 10.5x5.6mm,Pitch 1.27mm,IPC Low Density)
footprint NS0014A_L (SOIC,14-Leads,Body 10.5x5.6mm,Pitch 0.4mm,IPC High Density)
part A pins: 1 A (in), 2 B (in), 3 J (out)
part B pins: 4 K (out), 5 C (in), 6 D (in)
part C pins: 8 E (in), 9 F (in), 10 L (out)
part D pins: 11 M (out), 12 G (in), 13 H (in)
part E pins: 7 VSS (power), 14 VDD (power)

## CD4071BPW
designator U?
CMOS Quad 2-Input OR Gate, PW0014A, TUBE; Generic Part Number: CD4071B; Manufacturer: Texas Instruments; PartNumber: CD4071BPW; VCC(Min)(V): 3; VCC(Max)(V): 18; ICC @ Nom Voltage(Max)(mA): 0.015; Bits(#): 4; F @ Nom Voltage(Max)(Mhz): 8; Rating: Military; Voltage(Nom)(V): 10; Output Drive (IOL/IOH)(Max)(mA): 1.5/-1.5; tpd @ Nom Voltage(Max)(ns): 120; DatasheetVersion: SCHS056D; PackageReference: PW0014A; Output Type: CMOS; Input Type: CMOS; Operating Temperature Range(C): -55 to 125; Code_JEDEC: MO-153; ComponentLink1Description: Manufacturer URL; ComponentLink1URL: http://www.ti.com/; ComponentLink2Description: Datasheet; ComponentLink2URL: http://www.ti.com/lit/ds/symlink/cd4071b.pdf; ComponentLink3Description: Package Specification; ComponentLink3URL: http://www.ti.com/lit/ml/mpds360/mpds360.pdf
footprint PW0014A_N (SOP, 14-Leads, Body 5.1x4.5mm, Pitch 0.65mm, IPC Medium Density)
footprint PW0014A_M (SOP, 14-Leads, Body 5.1x4.5mm, Pitch 0.65mm, IPC Low Density)
footprint PW0014A_L (SOP, 14-Leads, Body 5.1x4.5mm, Pitch 0.65mm, IPC High Density)
part A pins: 1 A (in), 2 B (in), 3 J (out)
part B pins: 4 K (out), 5 C (in), 6 D (in)
part C pins: 8 E (in), 9 F (in), 10 L (out)
part D pins: 11 M (out), 12 G (in), 13 H (in)
part E pins: 7 VSS (power), 14 VDD (power)

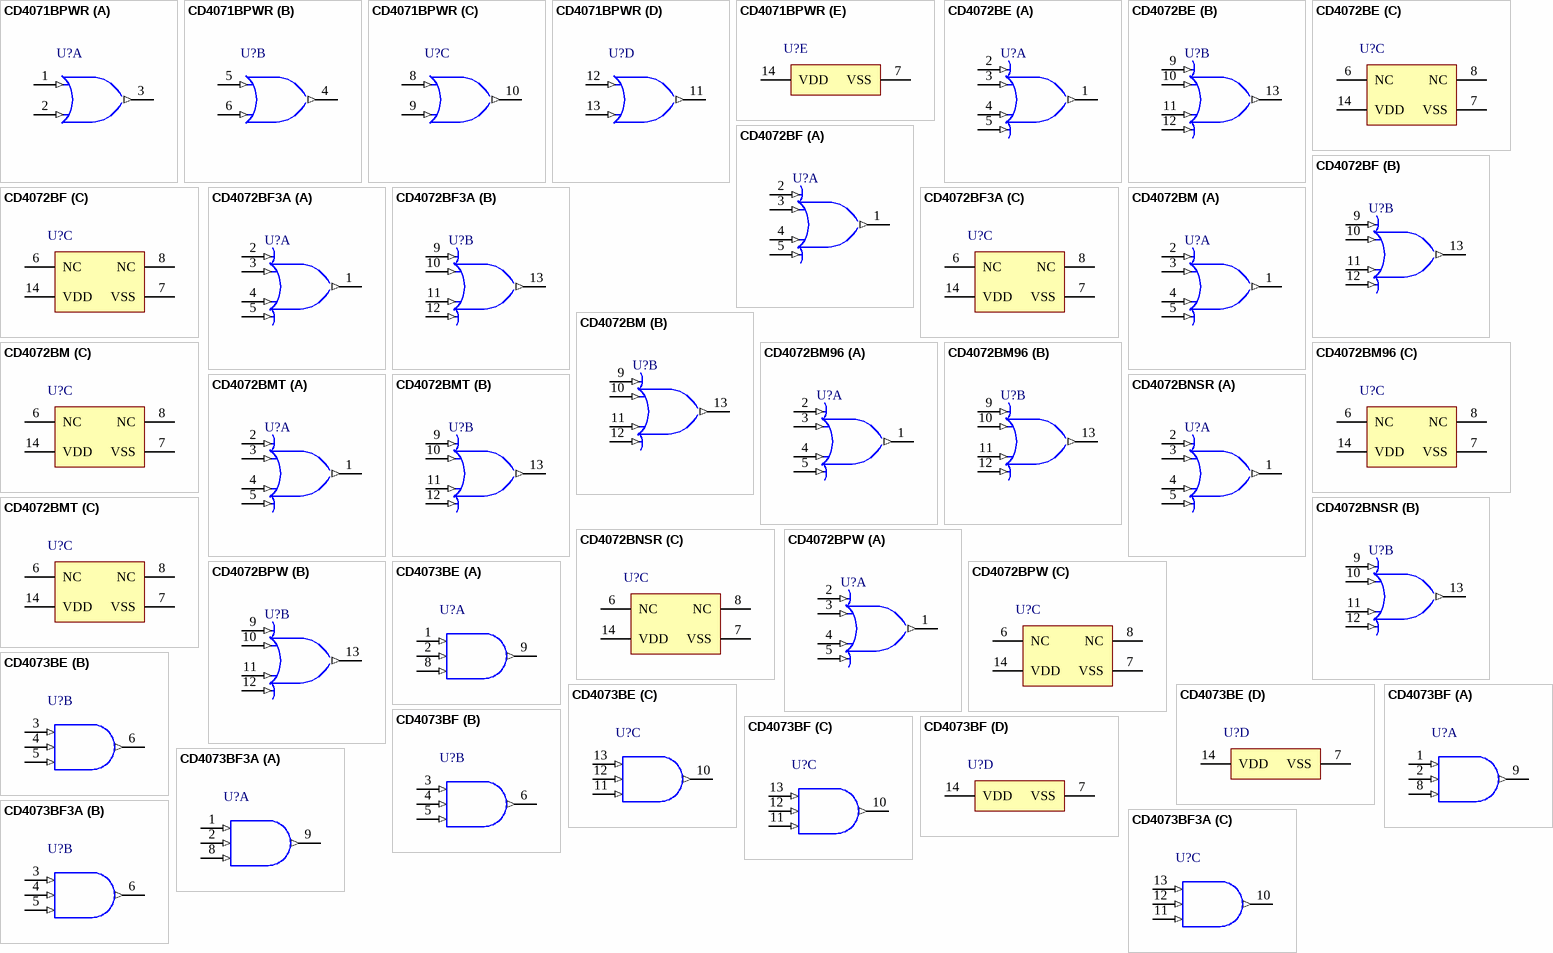
[diagram p42: symbols CD4071BPWR to CD4073BF3A]

## CD4071BPWR
designator U?
CMOS Quad 2-Input OR Gate, PW0014A, LARGE T&R; Generic Part Number: CD4071B; Manufacturer: Texas Instruments; PartNumber: CD4071BPWR; VCC(Min)(V): 3; VCC(Max)(V): 18; ICC @ Nom Voltage(Max)(mA): 0.015; Bits(#): 4; F @ Nom Voltage(Max)(Mhz): 8; Rating: Military; Voltage(Nom)(V): 10; Output Drive (IOL/IOH)(Max)(mA): 1.5/-1.5; tpd @ Nom Voltage(Max)(ns): 120; DatasheetVersion: SCHS056D; PackageReference: PW0014A; Output Type: CMOS; Input Type: CMOS; Operating Temperature Range(C): -55 to 125; Code_JEDEC: MO-153; ComponentLink1Description: Manufacturer URL; ComponentLink1URL: http://www.ti.com/; ComponentLink2Description: Datasheet; ComponentLink2URL: http://www.ti.com/lit/ds/symlink/cd4071b.pdf; ComponentLink3Description: Package Specification; ComponentLink3URL: http://www.ti.com/lit/ml/mpds360/mpds360.pdf
footprint PW0014A_N (SOP, 14-Leads, Body 5.1x4.5mm, Pitch 0.65mm, IPC Medium Density)
footprint PW0014A_M (SOP, 14-Leads, Body 5.1x4.5mm, Pitch 0.65mm, IPC Low Density)
footprint PW0014A_L (SOP, 14-Leads, Body 5.1x4.5mm, Pitch 0.65mm, IPC High Density)
part A pins: 1 A (in), 2 B (in), 3 J (out)
part B pins: 4 K (out), 5 C (in), 6 D (in)
part C pins: 8 E (in), 9 F (in), 10 L (out)
part D pins: 11 M (out), 12 G (in), 13 H (in)
part E pins: 7 VSS (power), 14 VDD (power)

## CD4072BE
designator U?
CMOS Dual 4-Input OR Gate, N0014A, TUBE; Generic Part Number: CD4072B; Manufacturer: Texas Instruments; PartNumber: CD4072BE; VCC(Min)(V): 3; VCC(Max)(V): 18; ICC @ Nom Voltage(Max)(mA): 0.015; Bits(#): 2; F @ Nom Voltage(Max)(Mhz): 8; Rating: Catalog; Voltage(Nom)(V): 10; Output Drive (IOL/IOH)(Max)(mA): 1.5/-1.5; tpd @ Nom Voltage(Max)(ns): 120; DatasheetVersion: SCHS056D; PackageReference: N0014A; Output Type: CMOS; Input Type: CMOS; Operating Temperature Range(C): -55 to 125; Code_JEDEC: MS-001; ComponentLink1Description: Manufacturer URL; ComponentLink1URL: http://www.ti.com/; ComponentLink2Description: Datasheet; ComponentLink2URL: http://www.ti.com/lit/ds/symlink/cd4072b.pdf; ComponentLink3Description: Package Specification; ComponentLink3URL: http://www.ti.com/lit/ml/mpdi002c/mpdi002c.pdf
footprint N0014A (DIP, 14-Leads, Body 19.7x6.6mm, Pitch 2.54mm)
part A pins: 1 J (out), 2 A (in), 3 B (in), 4 C (in), 5 D (in)
part B pins: 9 E (in), 10 F (in), 11 G (in), 12 H (in), 13 K (out)
part C pins: 6 NC, 7 VSS (power), 8 NC, 14 VDD (power)

## CD4072BF
designator U?
CMOS Dual 4-Input OR Gate, J0014A, TUBE; Generic Part Number: CD4072B-MIL; Manufacturer: Texas Instruments; PartNumber: CD4072BF; VCC(Min)(V): 3; VCC(Max)(V): 18; ICC @ Nom Voltage(Max)(mA): 0.015; Bits(#): 2; F @ Nom Voltage(Max)(Mhz): 8; Rating: Military; Voltage(Nom)(V): 10; Output Drive (IOL/IOH)(Max)(mA): 1.5/-1.5; tpd @ Nom Voltage(Max)(ns): 250; DatasheetVersion: SCHS056D; PackageReference: J0014A; Output Type: CMOS; Input Type: CMOS; Operating Temperature Range(C): -55 to 125; ComponentLink1Description: Manufacturer URL; ComponentLink1URL: http://www.ti.com/; ComponentLink2Description: Datasheet; ComponentLink2URL: http://www.ti.com/lit/ds/symlink/cd4072b-mil.pdf; ComponentLink3Description: Package Specification; ComponentLink3URL: http://www.ti.com/lit/ml/mcer002d/mcer002d.pdf
footprint J0014A (DIP, 14-Leads, Body 19.95x7.2mm, Pitch 2.54mm)
part A pins: 1 J (out), 2 A (in), 3 B (in), 4 C (in), 5 D (in)
part B pins: 9 E (in), 10 F (in), 11 G (in), 12 H (in), 13 K (out)
part C pins: 6 NC, 7 VSS (power), 8 NC, 14 VDD (power)

## CD4072BF3A
designator U?
CMOS Dual 4-Input OR Gate, J0014A, TUBE; Generic Part Number: CD4072B-MIL; Manufacturer: Texas Instruments; PartNumber: CD4072BF3A; VCC(Min)(V): 3; VCC(Max)(V): 18; ICC @ Nom Voltage(Max)(mA): 0.015; Bits(#): 2; F @ Nom Voltage(Max)(Mhz): 8; Rating: Military; Voltage(Nom)(V): 10; Output Drive (IOL/IOH)(Max)(mA): 1.5/-1.5; tpd @ Nom Voltage(Max)(ns): 250; DatasheetVersion: SCHS056D; PackageReference: J0014A; Output Type: CMOS; Input Type: CMOS; Operating Temperature Range(C): -55 to 125; ComponentLink1Description: Manufacturer URL; ComponentLink1URL: http://www.ti.com/; ComponentLink2Description: Datasheet; ComponentLink2URL: http://www.ti.com/lit/ds/symlink/cd4072b-mil.pdf; ComponentLink3Description: Package Specification; ComponentLink3URL: http://www.ti.com/lit/ml/mcer002d/mcer002d.pdf
footprint J0014A (DIP, 14-Leads, Body 19.95x7.2mm, Pitch 2.54mm)
part A pins: 1 J (out), 2 A (in), 3 B (in), 4 C (in), 5 D (in)
part B pins: 9 E (in), 10 F (in), 11 G (in), 12 H (in), 13 K (out)
part C pins: 6 NC, 7 VSS (power), 8 NC, 14 VDD (power)

## CD4072BM
designator U?
CMOS Dual 4-Input OR Gate, D0014A, TUBE; Generic Part Number: CD4072B; Manufacturer: Texas Instruments; PartNumber: CD4072BM; VCC(Min)(V): 3; VCC(Max)(V): 18; ICC @ Nom Voltage(Max)(mA): 0.015; Bits(#): 2; F @ Nom Voltage(Max)(Mhz): 8; Rating: Catalog; Voltage(Nom)(V): 10; Output Drive (IOL/IOH)(Max)(mA): 1.5/-1.5; tpd @ Nom Voltage(Max)(ns): 120; DatasheetVersion: SCHS056D; PackageReference: D0014A; Output Type: CMOS; Input Type: CMOS; Operating Temperature Range(C): -55 to 125; Code_JEDEC: MS-012; ComponentLink1Description: Manufacturer URL; ComponentLink1URL: http://www.ti.com/; ComponentLink2Description: Datasheet; ComponentLink2URL: http://www.ti.com/lit/ds/symlink/cd4072b.pdf; ComponentLink3Description: Package Specification; ComponentLink3URL: http://www.ti.com/lit/ml/mpds177g/mpds177g.pdf
footprint D0014A_N (SOIC, 14-Leads, Body 8.75x4mm, Pitch 1.27mm, IPC Medium Density)
footprint D0014A_M (SOIC, 14-Leads, Body 8.75x4mm, Pitch 1.27mm, IPC Low Density)
footprint D0014A_L (SOIC, 14-Leads, Body 8.75x4mm, Pitch 1.27mm, IPC High Density)
part A pins: 1 J (out), 2 A (in), 3 B (in), 4 C (in), 5 D (in)
part B pins: 9 E (in), 10 F (in), 11 G (in), 12 H (in), 13 K (out)
part C pins: 6 NC, 7 VSS (power), 8 NC, 14 VDD (power)

## CD4072BM96
designator U?
CMOS Dual 4-Input OR Gate, D0014A, LARGE T&R; Generic Part Number: CD4072B; Manufacturer: Texas Instruments; PartNumber: CD4072BM96; VCC(Min)(V): 3; VCC(Max)(V): 18; ICC @ Nom Voltage(Max)(mA): 0.015; Bits(#): 2; F @ Nom Voltage(Max)(Mhz): 8; Rating: Catalog; Voltage(Nom)(V): 10; Output Drive (IOL/IOH)(Max)(mA): 1.5/-1.5; tpd @ Nom Voltage(Max)(ns): 120; DatasheetVersion: SCHS056D; PackageReference: D0014A; Output Type: CMOS; Input Type: CMOS; Operating Temperature Range(C): -55 to 125; Code_JEDEC: MS-012; ComponentLink1Description: Manufacturer URL; ComponentLink1URL: http://www.ti.com/; ComponentLink2Description: Datasheet; ComponentLink2URL: http://www.ti.com/lit/ds/symlink/cd4072b.pdf; ComponentLink3Description: Package Specification; ComponentLink3URL: http://www.ti.com/lit/ml/mpds177g/mpds177g.pdf
footprint D0014A_N (SOIC, 14-Leads, Body 8.75x4mm, Pitch 1.27mm, IPC Medium Density)
footprint D0014A_M (SOIC, 14-Leads, Body 8.75x4mm, Pitch 1.27mm, IPC Low Density)
footprint D0014A_L (SOIC, 14-Leads, Body 8.75x4mm, Pitch 1.27mm, IPC High Density)
part A pins: 1 J (out), 2 A (in), 3 B (in), 4 C (in), 5 D (in)
part B pins: 9 E (in), 10 F (in), 11 G (in), 12 H (in), 13 K (out)
part C pins: 6 NC, 7 VSS (power), 8 NC, 14 VDD (power)

## CD4072BMT
designator U?
CMOS Dual 4-Input OR Gate, D0014A, SMALL T&R; Generic Part Number: CD4072B; Manufacturer: Texas Instruments; PartNumber: CD4072BMT; VCC(Min)(V): 3; VCC(Max)(V): 18; ICC @ Nom Voltage(Max)(mA): 0.015; Bits(#): 2; F @ Nom Voltage(Max)(Mhz): 8; Rating: Catalog; Voltage(Nom)(V): 10; Output Drive (IOL/IOH)(Max)(mA): 1.5/-1.5; tpd @ Nom Voltage(Max)(ns): 120; DatasheetVersion: SCHS056D; PackageReference: D0014A; Output Type: CMOS; Input Type: CMOS; Operating Temperature Range(C): -55 to 125; Code_JEDEC: MS-012; ComponentLink1Description: Manufacturer URL; ComponentLink1URL: http://www.ti.com/; ComponentLink2Description: Datasheet; ComponentLink2URL: http://www.ti.com/lit/ds/symlink/cd4072b.pdf; ComponentLink3Description: Package Specification; ComponentLink3URL: http://www.ti.com/lit/ml/mpds177g/mpds177g.pdf
footprint D0014A_N (SOIC, 14-Leads, Body 8.75x4mm, Pitch 1.27mm, IPC Medium Density)
footprint D0014A_M (SOIC, 14-Leads, Body 8.75x4mm, Pitch 1.27mm, IPC Low Density)
footprint D0014A_L (SOIC, 14-Leads, Body 8.75x4mm, Pitch 1.27mm, IPC High Density)
part A pins: 1 J (out), 2 A (in), 3 B (in), 4 C (in), 5 D (in)
part B pins: 9 E (in), 10 F (in), 11 G (in), 12 H (in), 13 K (out)
part C pins: 6 NC, 7 VSS (power), 8 NC, 14 VDD (power)

## CD4072BNSR
designator U?
CMOS Dual 4-Input OR Gate, NS0014A, LARGE T&R; Generic Part Number: CD4072B; Manufacturer: Texas Instruments; PartNumber: CD4072BNSR; VCC(Min)(V): 3; VCC(Max)(V): 18; ICC @ Nom Voltage(Max)(mA): 0.015; Bits(#): 2; F @ Nom Voltage(Max)(Mhz): 8; Rating: Catalog; Voltage(Nom)(V): 10; Output Drive (IOL/IOH)(Max)(mA): 1.5/-1.5; tpd @ Nom Voltage(Max)(ns): 120; DatasheetVersion: SCHS056D; PackageReference: NS0014A; Output Type: CMOS; Input Type: CMOS; Operating Temperature Range(C): -55 to 125; ComponentLink1Description: Manufacturer URL; ComponentLink1URL: http://www.ti.com/; ComponentLink2Description: Datasheet; ComponentLink2URL: http://www.ti.com/lit/ds/symlink/cd4072b.pdf; ComponentLink3Description: Package Specification; ComponentLink3URL: http://www.ti.com/lit/ml/msop002a/msop002a.pdf
footprint NS0014A_N (SOIC,14-Leads,Body 10.5x5.6mm,Pitch 1.27mm,IPC Medium Density)
footprint NS0014A_M (SOIC,14-Leads,Body 10.5x5.6mm,Pitch 1.27mm,IPC Low Density)
footprint NS0014A_L (SOIC,14-Leads,Body 10.5x5.6mm,Pitch 0.4mm,IPC High Density)
part A pins: 1 J (out), 2 A (in), 3 B (in), 4 C (in), 5 D (in)
part B pins: 9 E (in), 10 F (in), 11 G (in), 12 H (in), 13 K (out)
part C pins: 6 NC, 7 VSS (power), 8 NC, 14 VDD (power)

## CD4072BPW
designator U?
CMOS Dual 4-Input OR Gate, PW0014A, TUBE; Generic Part Number: CD4072B; Manufacturer: Texas Instruments; PartNumber: CD4072BPW; VCC(Min)(V): 3; VCC(Max)(V): 18; ICC @ Nom Voltage(Max)(mA): 0.015; Bits(#): 2; F @ Nom Voltage(Max)(Mhz): 8; Rating: Catalog; Voltage(Nom)(V): 10; Output Drive (IOL/IOH)(Max)(mA): 1.5/-1.5; tpd @ Nom Voltage(Max)(ns): 120; DatasheetVersion: SCHS056D; PackageReference: PW0014A; Output Type: CMOS; Input Type: CMOS; Operating Temperature Range(C): -55 to 125; Code_JEDEC: MO-153; ComponentLink1Description: Manufacturer URL; ComponentLink1URL: http://www.ti.com/; ComponentLink2Description: Datasheet; ComponentLink2URL: http://www.ti.com/lit/ds/symlink/cd4072b.pdf; ComponentLink3Description: Package Specification; ComponentLink3URL: http://www.ti.com/lit/ml/mpds360/mpds360.pdf
footprint PW0014A_N (SOP, 14-Leads, Body 5.1x4.5mm, Pitch 0.65mm, IPC Medium Density)
footprint PW0014A_M (SOP, 14-Leads, Body 5.1x4.5mm, Pitch 0.65mm, IPC Low Density)
footprint PW0014A_L (SOP, 14-Leads, Body 5.1x4.5mm, Pitch 0.65mm, IPC High Density)
part A pins: 1 J (out), 2 A (in), 3 B (in), 4 C (in), 5 D (in)
part B pins: 9 E (in), 10 F (in), 11 G (in), 12 H (in), 13 K (out)
part C pins: 6 NC, 7 VSS (power), 8 NC, 14 VDD (power)

## CD4073BE
designator U?
CMOS Triple 3-Input AND Gate, N0014A, TUBE; Generic Part Number: CD4073B; Manufacturer: Texas Instruments; PartNumber: CD4073BE; VCC(Max)(V): 18; VCC(Min)(V): 3; ICC @ Nom Voltage(Max)(mA): 0.025; F @ Nom Voltage(Max)(Mhz): 8; Rating: Catalog; Technology Family: CD4000; Voltage(Nom)(V): 10; Schmitt Trigger: No; tpd @ Nom Voltage(Max)(ns): 120; DatasheetVersion: SCHS057C; PackageReference: N0014A; Supplier 1: Mouser; Supplier Part Number 1: 595-CD4073BE; Supplier 2: Digi-Key; Supplier Part Number 2: 296-2064-5-ND; Output Type: CMOS; Input Type: CMOS; Bits(#): 3; Operating Temperature Range(C): -55 to 125; ComponentLink1Description: Manufacturer URL; ComponentLink1URL: http://www.ti.com/; ComponentLink2Description: Datasheet; ComponentLink2URL: http://www.ti.com/lit/ds/symlink/cd4073b.pdf
footprint N0014A (DIP, 14-Leads, Body 19.7x6.6mm, Pitch 2.54mm)
part A pins: 1 A (in), 2 B (in), 8 C (in), 9 J (out)
part B pins: 3 D (in), 4 E (in), 5 F (in), 6 K (out)
part C pins: 10 L (out), 11 I (in), 12 H (in), 13 G (in)
part D pins: 7 VSS (power), 14 VDD (power)

## CD4073BF
designator U?
CMOS Triple 3-Input AND Gate, J0014A, TUBE; Generic Part Number: CD4073B-MIL; Manufacturer: Texas Instruments; PartNumber: CD4073BF; VCC(Max)(V): 18; VCC(Min)(V): 3; ICC @ Nom Voltage(Max)(mA): 0.025; F @ Nom Voltage(Max)(Mhz): 8; Rating: Military; Technology Family: CD4000; Voltage(Nom)(V): 10; Schmitt Trigger: No; Output Drive (IOL/IOH)(Max)(mA): -1.5/1.5; tpd @ Nom Voltage(Max)(ns): 250; DatasheetVersion: SCHS057C; PackageReference: J0014A; Output Type: CMOS; Input Type: CMOS; Bits(#): 3; Operating Temperature Range(C): -55 to 125; ComponentLink1Description: Manufacturer URL; ComponentLink1URL: http://www.ti.com/; ComponentLink2Description: Datasheet; ComponentLink2URL: http://www.ti.com/lit/ds/symlink/cd4073b-mil.pdf
footprint J0014A (DIP, 14-Leads, Body 19.95x7.2mm, Pitch 2.54mm)
part A pins: 1 A (in), 2 B (in), 8 C (in), 9 J (out)
part B pins: 3 D (in), 4 E (in), 5 F (in), 6 K (out)
part C pins: 10 L (out), 11 I (in), 12 H (in), 13 G (in)
part D pins: 7 VSS (power), 14 VDD (power)

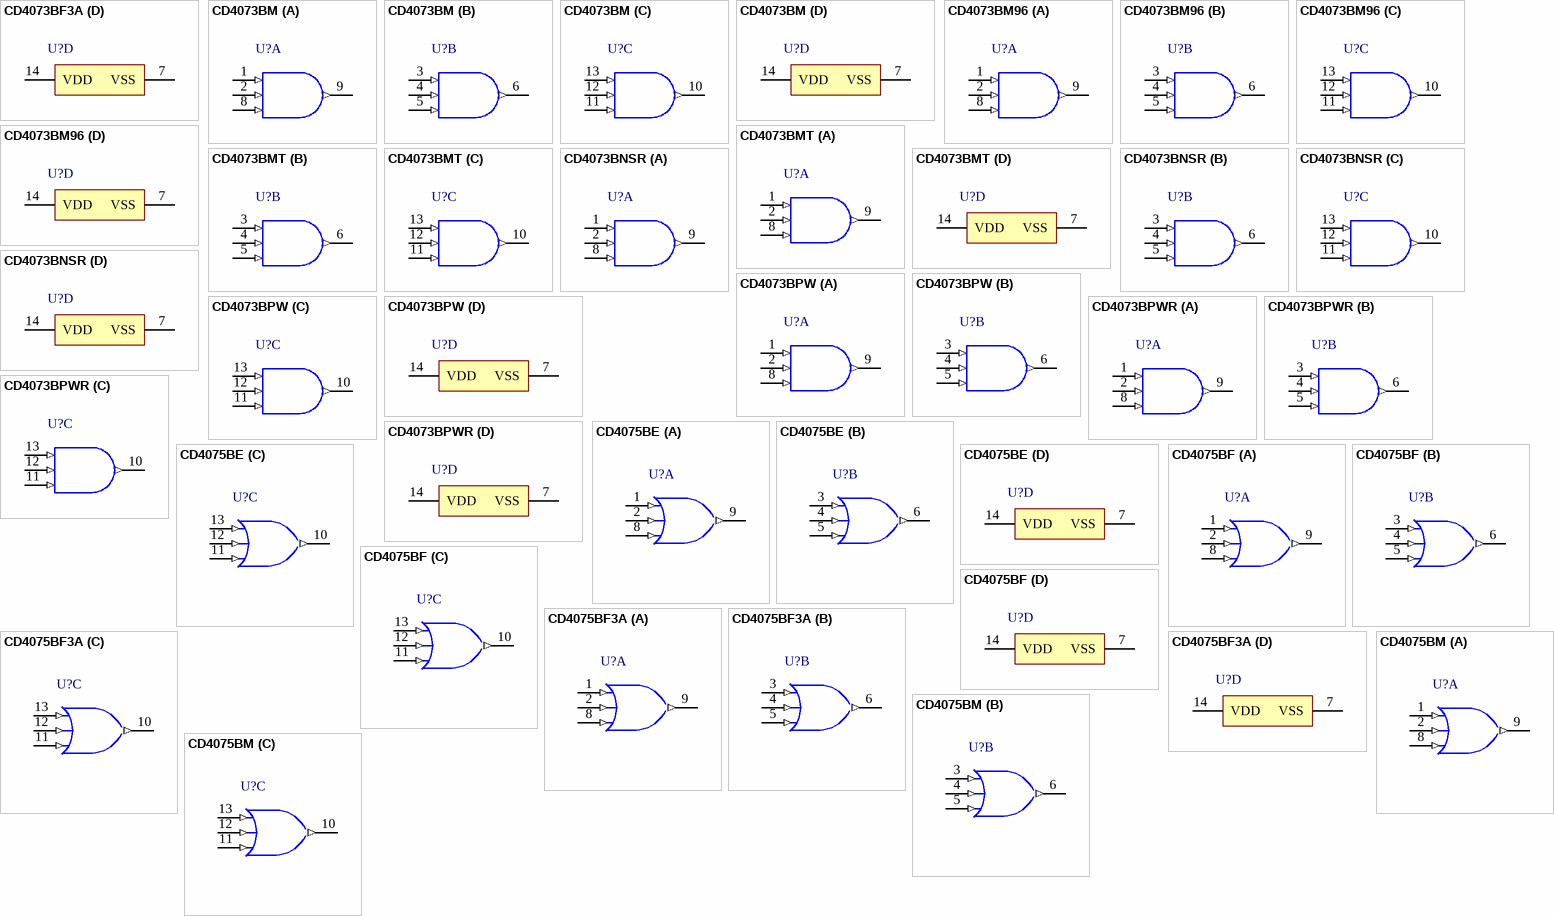
[diagram p43: symbols CD4073BF3A to CD4075BM]

## CD4073BF3A
designator U?
CMOS Triple 3-Input AND Gate, J0014A, TUBE; Generic Part Number: CD4073B-MIL; Manufacturer: Texas Instruments; PartNumber: CD4073BF3A; VCC(Max)(V): 18; VCC(Min)(V): 3; ICC @ Nom Voltage(Max)(mA): 0.025; F @ Nom Voltage(Max)(Mhz): 8; Rating: Military; Technology Family: CD4000; Voltage(Nom)(V): 10; Schmitt Trigger: No; Output Drive (IOL/IOH)(Max)(mA): -1.5/1.5; tpd @ Nom Voltage(Max)(ns): 250; DatasheetVersion: SCHS057C; PackageReference: J0014A; Output Type: CMOS; Input Type: CMOS; Bits(#): 3; Operating Temperature Range(C): -55 to 125; ComponentLink1Description: Manufacturer URL; ComponentLink1URL: http://www.ti.com/; ComponentLink2Description: Datasheet; ComponentLink2URL: http://www.ti.com/lit/ds/symlink/cd4073b-mil.pdf
footprint J0014A (DIP, 14-Leads, Body 19.95x7.2mm, Pitch 2.54mm)
part A pins: 1 A (in), 2 B (in), 8 C (in), 9 J (out)
part B pins: 3 D (in), 4 E (in), 5 F (in), 6 K (out)
part C pins: 10 L (out), 11 I (in), 12 H (in), 13 G (in)
part D pins: 7 VSS (power), 14 VDD (power)

## CD4073BM
designator U?
CMOS Triple 3-Input AND Gate, D0014A, TUBE; Generic Part Number: CD4073B; Manufacturer: Texas Instruments; PartNumber: CD4073BM; VCC(Max)(V): 18; VCC(Min)(V): 3; ICC @ Nom Voltage(Max)(mA): 0.025; F @ Nom Voltage(Max)(Mhz): 8; Rating: Catalog; Technology Family: CD4000; Voltage(Nom)(V): 10; Schmitt Trigger: No; tpd @ Nom Voltage(Max)(ns): 120; DatasheetVersion: SCHS057C; PackageReference: D0014A; Supplier 1: Mouser; Supplier Part Number 1: 595-CD4073BM; Supplier 2: Digi-Key; Supplier Part Number 2: 296-3520-5-ND; Output Type: CMOS; Input Type: CMOS; Bits(#): 3; Operating Temperature Range(C): -55 to 125; ComponentLink1Description: Manufacturer URL; ComponentLink1URL: http://www.ti.com/; ComponentLink2Description: Datasheet; ComponentLink2URL: http://www.ti.com/lit/ds/symlink/cd4073b.pdf
footprint D0014A_N (SOIC, 14-Leads, Body 8.75x4mm, Pitch 1.27mm, IPC Medium Density)
footprint D0014A_M (SOIC, 14-Leads, Body 8.75x4mm, Pitch 1.27mm, IPC Low Density)
footprint D0014A_L (SOIC, 14-Leads, Body 8.75x4mm, Pitch 1.27mm, IPC High Density)
part A pins: 1 A (in), 2 B (in), 8 C (in), 9 J (out)
part B pins: 3 D (in), 4 E (in), 5 F (in), 6 K (out)
part C pins: 10 L (out), 11 I (in), 12 H (in), 13 G (in)
part D pins: 7 VSS (power), 14 VDD (power)

## CD4073BM96
designator U?
CMOS Triple 3-Input AND Gate, D0014A, LARGE T&R; Generic Part Number: CD4073B; Manufacturer: Texas Instruments; PartNumber: CD4073BM96; VCC(Max)(V): 18; VCC(Min)(V): 3; ICC @ Nom Voltage(Max)(mA): 0.025; F @ Nom Voltage(Max)(Mhz): 8; Rating: Catalog; Technology Family: CD4000; Voltage(Nom)(V): 10; Schmitt Trigger: No; tpd @ Nom Voltage(Max)(ns): 120; DatasheetVersion: SCHS057C; PackageReference: D0014A; Supplier 1: Mouser; Supplier Part Number 1: 595-CD4073BM96; Supplier 2: Digi-Key; Supplier Part Number 2: 296-31519-2-ND; Supplier 3: Digi-Key; Supplier Part Number 3: 296-31519-1-ND; Supplier 4: Digi-Key; Supplier Part Number 4: 296-31519-6-ND; Output Type: CMOS; Input Type: CMOS; Bits(#): 3; Operating Temperature Range(C): -55 to 125; ComponentLink1Description: Manufacturer URL; ComponentLink1URL: http://www.ti.com/; ComponentLink2Description: Datasheet; ComponentLink2URL: http://www.ti.com/lit/ds/symlink/cd4073b.pdf
footprint D0014A_N (SOIC, 14-Leads, Body 8.75x4mm, Pitch 1.27mm, IPC Medium Density)
footprint D0014A_M (SOIC, 14-Leads, Body 8.75x4mm, Pitch 1.27mm, IPC Low Density)
footprint D0014A_L (SOIC, 14-Leads, Body 8.75x4mm, Pitch 1.27mm, IPC High Density)
part A pins: 1 A (in), 2 B (in), 8 C (in), 9 J (out)
part B pins: 3 D (in), 4 E (in), 5 F (in), 6 K (out)
part C pins: 10 L (out), 11 I (in), 12 H (in), 13 G (in)
part D pins: 7 VSS (power), 14 VDD (power)

## CD4073BMT
designator U?
CMOS Triple 3-Input AND Gate, D0014A, SMALL T&R; Generic Part Number: CD4073B; Manufacturer: Texas Instruments; PartNumber: CD4073BMT; VCC(Max)(V): 18; VCC(Min)(V): 3; ICC @ Nom Voltage(Max)(mA): 0.025; F @ Nom Voltage(Max)(Mhz): 8; Rating: Catalog; Technology Family: CD4000; Voltage(Nom)(V): 10; Schmitt Trigger: No; tpd @ Nom Voltage(Max)(ns): 120; DatasheetVersion: SCHS057C; PackageReference: D0014A; Supplier 1: Mouser; Supplier Part Number 1: 595-CD4073BMT; Supplier 2: Digi-Key; Supplier Part Number 2: CD4073BMT-ND; Output Type: CMOS; Input Type: CMOS; Bits(#): 3; Operating Temperature Range(C): -55 to 125; ComponentLink1Description: Manufacturer URL; ComponentLink1URL: http://www.ti.com/; ComponentLink2Description: Datasheet; ComponentLink2URL: http://www.ti.com/lit/ds/symlink/cd4073b.pdf
footprint D0014A_N (SOIC, 14-Leads, Body 8.75x4mm, Pitch 1.27mm, IPC Medium Density)
footprint D0014A_M (SOIC, 14-Leads, Body 8.75x4mm, Pitch 1.27mm, IPC Low Density)
footprint D0014A_L (SOIC, 14-Leads, Body 8.75x4mm, Pitch 1.27mm, IPC High Density)
part A pins: 1 A (in), 2 B (in), 8 C (in), 9 J (out)
part B pins: 3 D (in), 4 E (in), 5 F (in), 6 K (out)
part C pins: 10 L (out), 11 I (in), 12 H (in), 13 G (in)
part D pins: 7 VSS (power), 14 VDD (power)

## CD4073BNSR
designator U?
CMOS Triple 3-Input AND Gate, NS0014A, LARGE T&R; Generic Part Number: CD4073B; Manufacturer: Texas Instruments; PartNumber: CD4073BNSR; VCC(Max)(V): 18; VCC(Min)(V): 3; ICC @ Nom Voltage(Max)(mA): 0.025; F @ Nom Voltage(Max)(Mhz): 8; Rating: Catalog; Technology Family: CD4000; Voltage(Nom)(V): 10; Schmitt Trigger: No; tpd @ Nom Voltage(Max)(ns): 120; DatasheetVersion: SCHS057C; PackageReference: NS0014A; Supplier 1: Mouser; Supplier Part Number 1: 595-CD4073BNSR; Supplier 2: Digi-Key; Supplier Part Number 2: 296-14133-2-ND; Supplier 3: Digi-Key; Supplier Part Number 3: 296-14133-1-ND; Supplier 4: Digi-Key; Supplier Part Number 4: 296-14133-6-ND; Output Type: CMOS; Input Type: CMOS; Bits(#): 3; Operating Temperature Range(C): -55 to 125; ComponentLink1Description: Manufacturer URL; ComponentLink1URL: http://www.ti.com/; ComponentLink2Description: Datasheet; ComponentLink2URL: http://www.ti.com/lit/ds/symlink/cd4073b.pdf
footprint NS0014A_N (SOIC,14-Leads,Body 10.5x5.6mm,Pitch 1.27mm,IPC Medium Density)
footprint NS0014A_M (SOIC,14-Leads,Body 10.5x5.6mm,Pitch 1.27mm,IPC Low Density)
footprint NS0014A_L (SOIC,14-Leads,Body 10.5x5.6mm,Pitch 0.4mm,IPC High Density)
part A pins: 1 A (in), 2 B (in), 8 C (in), 9 J (out)
part B pins: 3 D (in), 4 E (in), 5 F (in), 6 K (out)
part C pins: 10 L (out), 11 I (in), 12 H (in), 13 G (in)
part D pins: 7 VSS (power), 14 VDD (power)